# Altium footprint library GRM1885C1H101JA01D.PcbLib: 3 footprints
Each footprint in its own frame and in the unit in brackets; x right, y up, seen from the top. Pads: shape width x height; smd on the part's side, far side on the other; paste and mask are expansions set on the pad; w line width, h text height; cw(c..) or ccw(c..) is an arc to the next point about the centre after c.
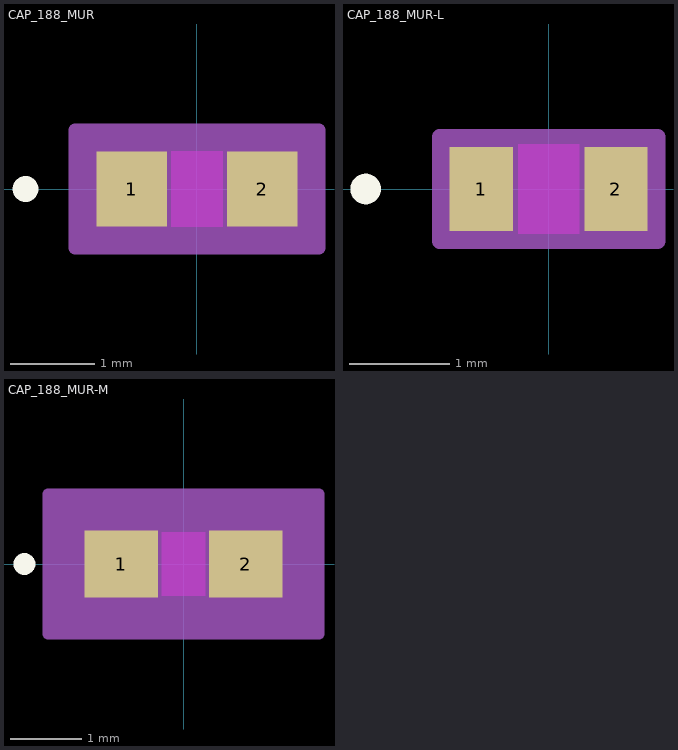
[diagram p0: the footprints below, top view; thin cyan lines are the x and y axes]

## CAP_188_MUR [mil]
pads (2):
  rect 32.78x35 smd paste+0 mask+0: 1(-30.39,0) 2(30.39,0)
Top Layer keep-out:
  region: -12,-15.5 -12,15.5 12,15.5 12,-15.5
Top Overlay:
  circle w6: c-79.78,0 r3
  text ".Designator" at -137.5,-25 h50
Keep-Out Layer:
  region: -12,-17.5 -12,17.5 12,17.5 12,-17.5
Mechanical 13:
  circle w1: c-25.39,0 r3
  lines w1: -33,-17.5 -33,17.5 ; -33,-17.5 -14,-17.5 -14,17.5 -33,17.5 ; -33,-17.5 33,-17.5 ; -33,-17.5 -33,17.5 ; -33,17.5 33,17.5 ; 33,-17.5 14,-17.5 14,17.5 33,17.5 ; 33,-17.5 33,17.5 ; 33,-17.5 33,17.5
  text ".Designator" at -137.5,-25 h50
Mechanical 15:
  region: 56.78,-27.5 -56.78,-27.5 -56.78,27.5 56.78,27.5
  lines w6: -56.78,-27.5 -56.78,27.5 56.78,27.5 56.78,-27.5 -56.78,-27.5
3D body "CAP_188_MUR.step": height 35, standoff 0, extent -32.99,-17.48 32.99,17.48

## CAP_188_MUR-L [mil]
pads (2):
  rect 24.91x33.03 smd paste+0 mask+0: 1(-26.45,0) 2(26.45,0)
Top Layer keep-out:
  region: -12,-15.5 -12,15.5 12,15.5 12,-15.5
Top Overlay:
  circle w6: c-71.91,0 r3
  text ".Designator" at -137.5,-25 h50
Keep-Out Layer:
  region: -12,-17.5 -12,17.5 12,17.5 12,-17.5
Mechanical 13:
  circle w1: c-21.45,0 r3
  lines w1: -33,-17.5 -33,17.5 ; -33,-17.5 -14,-17.5 -14,17.5 -33,17.5 ; -33,-17.5 33,-17.5 ; -33,-17.5 -33,17.5 ; -33,17.5 33,17.5 ; 33,-17.5 14,-17.5 14,17.5 33,17.5 ; 33,-17.5 33,17.5 ; 33,-17.5 33,17.5
  text ".Designator" at -137.5,-25 h50
Mechanical 15:
  region: 42.91,-20.52 -42.91,-20.52 -42.91,20.52 42.91,20.52
  lines w6: -42.91,-20.52 -42.91,20.52 42.91,20.52 42.91,-20.52 -42.91,-20.52
3D body "CAP_188_MUR.step": height 35, standoff 0, extent -32.99,-17.48 32.99,17.48

## CAP_188_MUR-M [mil]
pads (2):
  rect 40.65x36.97 smd paste+0 mask+0: 1(-34.33,0) 2(34.33,0)
Top Layer keep-out:
  region: -12,-15.5 -12,15.5 12,15.5 12,-15.5
Top Overlay:
  circle w6: c-87.65,0 r3
  text ".Designator" at -137.5,-25 h50
Keep-Out Layer:
  region: -12,-17.5 -12,17.5 12,17.5 12,-17.5
Mechanical 13:
  circle w1: c-29.33,0 r3
  lines w1: -33,-17.5 -33,17.5 ; -33,-17.5 -14,-17.5 -14,17.5 -33,17.5 ; -33,-17.5 33,-17.5 ; -33,-17.5 -33,17.5 ; -33,17.5 33,17.5 ; 33,-17.5 14,-17.5 14,17.5 33,17.5 ; 33,-17.5 33,17.5 ; 33,-17.5 33,17.5
  text ".Designator" at -137.5,-25 h50
Mechanical 15:
  region: 74.65,-38.48 -74.65,-38.48 -74.65,38.48 74.65,38.48
  lines w6: -74.65,-38.48 -74.65,38.48 74.65,38.48 74.65,-38.48 -74.65,-38.48
3D body "CAP_188_MUR.step": height 35, standoff 0, extent -32.99,-17.48 32.99,17.48